# EAGLE library part ATTINY (library atmel)
Atmel 8-bit AVR Microcontroller with 2/4/8K Bytes In-System Programmable Flash
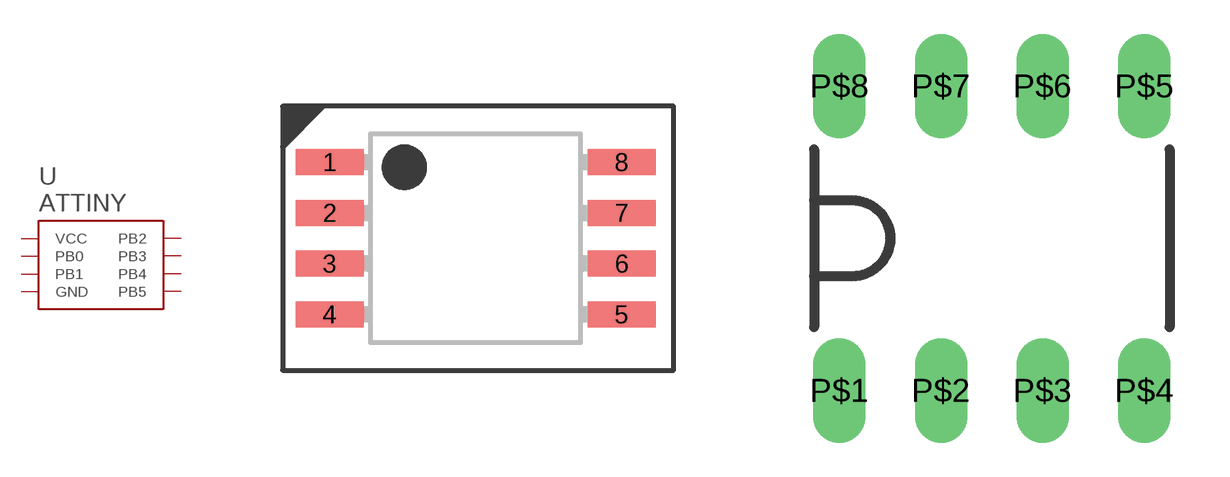
[diagram p0: symbol with the pads of EIAJ-SOIC-8; footprints EIAJ-SOIC-8, PDIP-8]

Designator prefix U

## ATTINY25-20SU  [EIAJ-SOIC-8]
1  PB5
2  PB3
3  PB4
4  GND
5  PB0
6  PB1
7  PB2
8  VCC

## ATTINY45-20SU  [EIAJ-SOIC-8]
Pads as for EIAJ-SOIC-8

## ATTINY85-20SU  [EIAJ-SOIC-8]
Pads as for EIAJ-SOIC-8

## ATTINY85-20PU  [PDIP-8]
P$1  PB5
P$2  PB3
P$3  PB4
P$4  GND
P$5  PB0
P$6  PB1
P$7  PB2
P$8  VCC

## Footprint EIAJ-SOIC-8 (pad centres in mm)
smd 1.7 x 0.65: 1 -3.65,1.905; 2 -3.65,0.635; 3 -3.65,-0.635; 4 -3.65,-1.905; 5 3.65,-1.905; 6 3.65,-0.635; 7 3.65,0.635; 8 3.65,1.905

## Footprint PDIP-8 (pad centres in mm)
drill 0.8 long: P$1 -3.81,-3.81; P$2 -1.27,-3.81; P$3 1.27,-3.81; P$4 3.81,-3.81; P$5 3.81,3.81; P$6 1.27,3.81; P$7 -1.27,3.81; P$8 -3.81,3.81